# EAGLE library part MEGA8L (library atmega8)
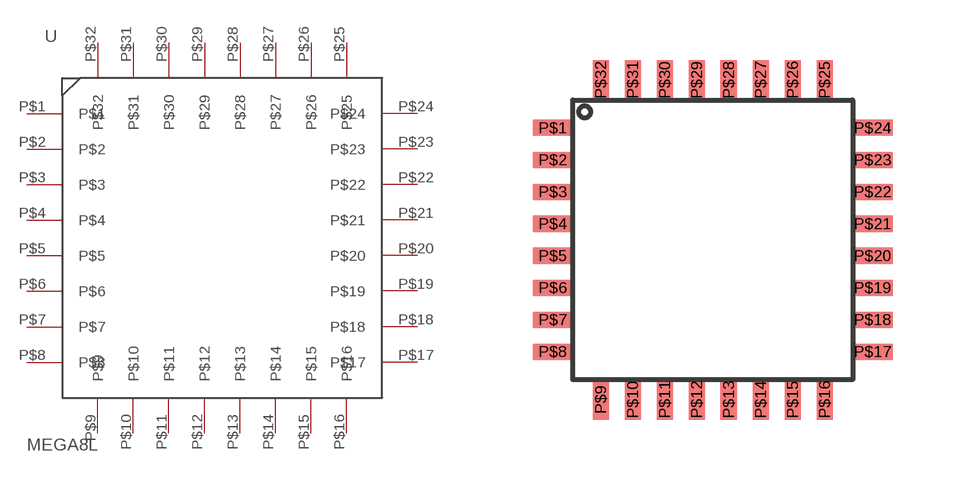
[diagram p0: symbol with the pads of TQFP_MEGA8L; footprint TQFP_MEGA8L]

Designator prefix -

## MEGA8L  [TQFP_MEGA8L]
P$1  P$1
P$2  P$2
P$3  P$3
P$4  P$4
P$5  P$5
P$6  P$6
P$7  P$7
P$8  P$8
P$9  P$9
P$10  P$10
P$11  P$11
P$12  P$12
P$13  P$13
P$14  P$14
P$15  P$15
P$16  P$16
P$17  P$17
P$18  P$18
P$19  P$19
P$20  P$20
P$21  P$21
P$22  P$22
P$23  P$23
P$24  P$24
P$25  P$25
P$26  P$26
P$27  P$27
P$28  P$28
P$29  P$29
P$30  P$30
P$31  P$31
P$32  P$32

## Footprint TQFP_MEGA8L (pad centres in mm)
smd 1 x 0.4: P$1 0.9,5.4; P$2 0.9,4.6; P$3 0.9,3.8; P$4 0.9,3; P$5 0.9,2.2; P$6 0.9,1.4; P$7 0.9,0.6; P$8 0.9,-0.2; P$17 8.9,-0.2; P$18 8.9,0.6; P$19 8.9,1.4; P$20 8.9,2.2; P$21 8.9,3; P$22 8.9,3.8; P$23 8.9,4.6; P$24 8.9,5.4
smd 0.4 x 1: P$9 2.1,-1.4; P$10 2.9,-1.4; P$11 3.7,-1.4; P$12 4.5,-1.4; P$13 5.3,-1.4; P$14 6.1,-1.4; P$15 6.9,-1.4; P$16 7.7,-1.4; P$25 7.7,6.6; P$26 6.9,6.6; P$27 6.1,6.6; P$28 5.3,6.6; P$29 4.5,6.6; P$30 3.7,6.6; P$31 2.9,6.6; P$32 2.1,6.6